# EAGLE library part TXB0104PWR (library TXB0104PWR)
4-Bit Bidirectional Voltage-Level Shifter with Auto Direction Sensing and +/-15 kV ESD Protect Source: Datasheet <http://www.ti.com/lit/ds/symlink/txb0104.pdf>
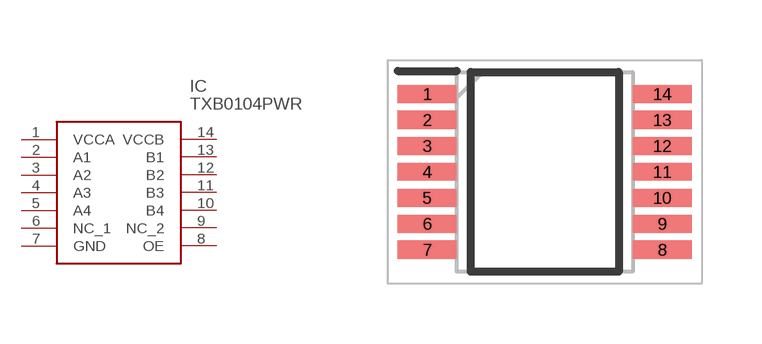
[diagram p0: symbol with the pads of SOP65P640X120-14N; footprint SOP65P640X120-14N]

Designator prefix IC

## TXB0104PWR (Description: 4-Bit Bidirectional Voltage-Level Shifter with Auto Direction Sensing and +/-15 kV ESD Protect; Height: 1.2mm; Manufacturer_Name: Texas Instruments; Manufacturer_Part_Number: TXB0104PWR; Mouser_Part_Number: 595-TXB0104PWR; Mouser_Price-Stock: https://www.mouser.co.uk/ProductDetail/Texas-Instruments/TXB0104PWR?qs=oFXvjAmG9EjSF69GpMWq5w%3D%3D)  [SOP65P640X120-14N]
1  VCCA
2  A1
3  A2
4  A3
5  A4
6  NC_1
7  GND
8  OE
9  NC_2
10  B4
11  B3
12  B2
13  B1
14  VCCB

## Footprint SOP65P640X120-14N (pad centres in mm)
pw(r-pdso-g14)
smd 1.475 x 0.45: 1 -2.938,1.95; 2 -2.938,1.3; 3 -2.938,0.65; 4 -2.938,0; 5 -2.938,-0.65; 6 -2.938,-1.3; 7 -2.938,-1.95; 8 2.938,-1.95; 9 2.938,-1.3; 10 2.938,-0.65; 11 2.938,0; 12 2.938,0.65; 13 2.938,1.3; 14 2.938,1.95